# Altium schematic symbol library QB50_base_board.SCHLIB: 26 symbols
Pins are listed as number, name and electrical type; pins without a type are passive.

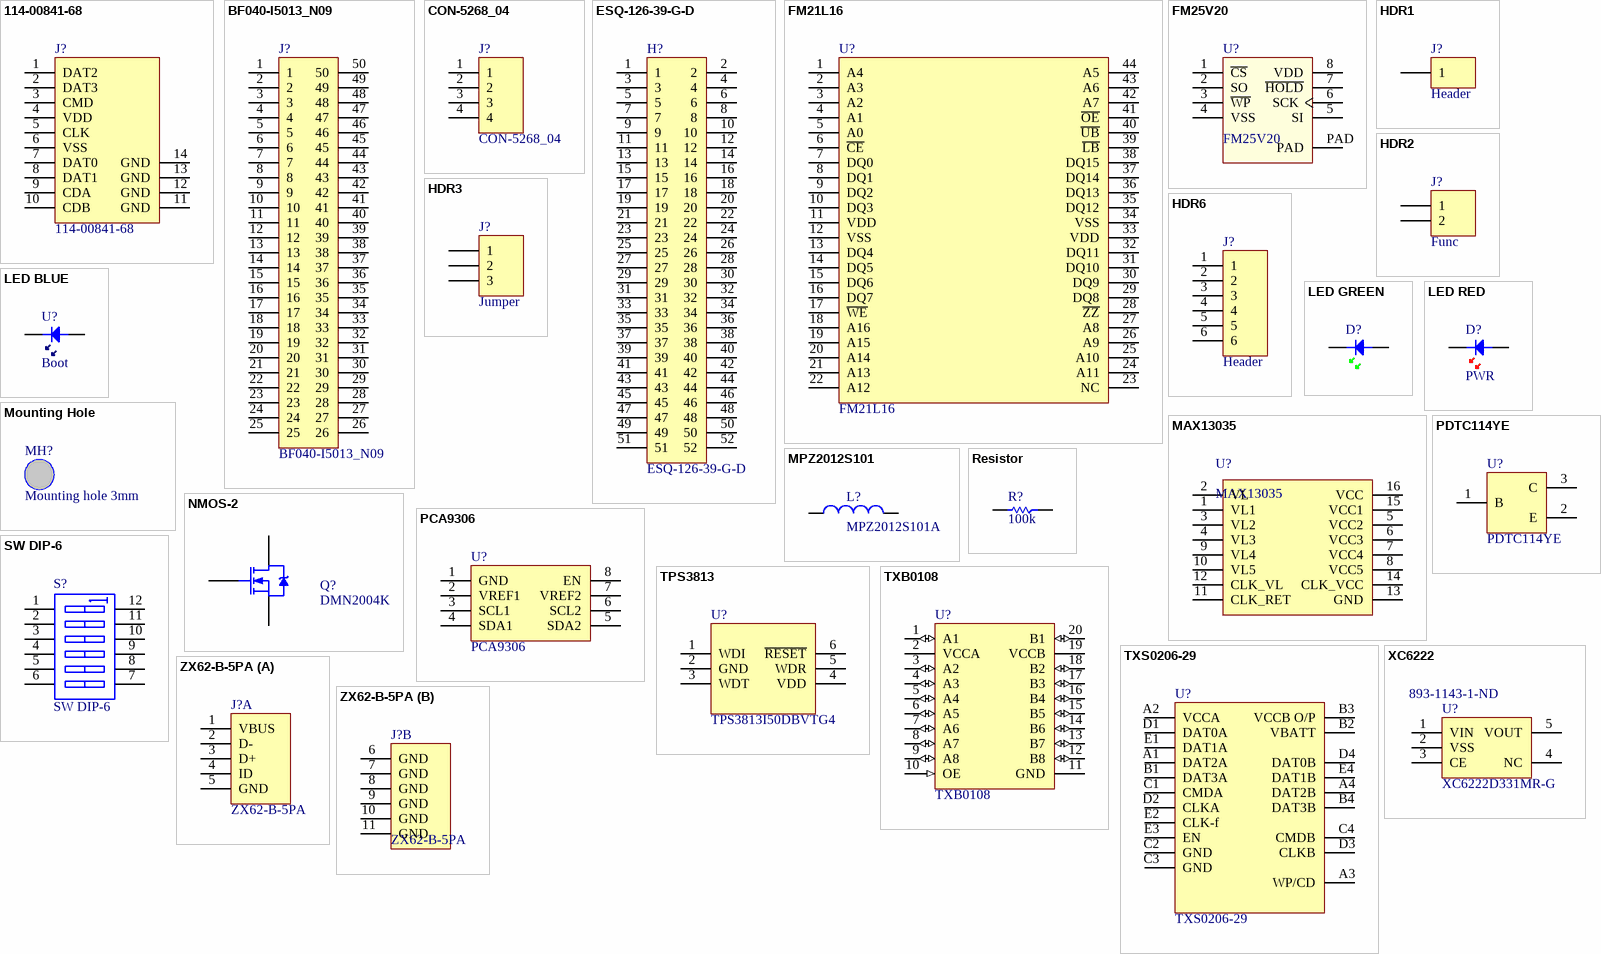
[diagram p0: symbols 114-00841-68 to ZX62-B-5PA]

## 114-00841-68
designator J?
Micro SD Connector
footprint 114-00841-68 (Amphenol MicroSD Card Connector)
pins: 1 DAT2, 2 DAT3, 3 CMD, 4 VDD, 5 CLK, 6 VSS, 7 DAT0, 8 DAT1, 9 CDA, 10 CDB, 11 GND, 12 GND, 13 GND, 14 GND

## BF040-I5013_N09
designator J?
Board to board connector
footprint BF040-I5013_N09 (Single B2B Connector for Hard Kernel CPU Module)
pins: 1, 2, 3, 4, 5, 6, 7, 8, 9, 10, 11, 12, 13, 14, 15, 16, 17, 18, 19, 20, 21, 22, 23, 24, 25, 26, 27, 28, 29, 30, 31, 32, 33, 34, 35, 36, 37, 38, 39, 40, 41, 42, 43, 44, 45, 46, 47, 48, 49, 50

## CON-5268_04
designator J?
UART connector
footprint CON-5268_04 (UART Connector)
pins: 1, 2, 3, 4

## ESQ-126-39-G-D
designator H?
CubeSat Kit header
footprint ESQ-126-39-G-D (Cubesat header)
pins: 1, 2, 3, 4, 5, 6, 7, 8, 9, 10, 11, 12, 13, 14, 15, 16, 17, 18, 19, 20, 21, 22, 23, 24, 25, 26, 27, 28, 29, 30, 31, 32, 33, 34, 35, 36, 37, 38, 39, 40, 41, 42, 43, 44, 45, 46, 47, 48, 49, 50, 51, 52

## FM21L16
designator U?
2 Mbit Parallel FRAM memory
footprint TSOPII-44 (Parallel FRAM)
pins: 1 A4, 2 A3, 3 A2, 4 A1, 5 A0, 6 ~{CE}, 7 DQ0, 8 DQ1, 9 DQ2, 10 DQ3, 11 VDD, 12 VSS, 13 DQ4, 14 DQ5, 15 DQ6, 16 DQ7, 17 ~{WE}, 18 A16, 19 A15, 20 A14, 21 A13, 22 A12, 23 NC, 24 A11, 25 A10, 26 A9, 27 A8, 28 ~{ZZ}, 29 DQ8, 30 DQ9, 31 DQ10, 32 DQ11, 33 VDD, 34 VSS, 35 DQ12, 36 DQ13, 37 DQ14, 38 DQ15, 39 ~{LB}, 40 ~{UB}, 41 ~{OE}, 42 A7, 43 A6, 44 A5

## FM25V20
designator U?
FRAM 2MB Memory
footprint TDFN8 (8 pin TDFN)
pins: 1 ~{CS}, 2 SO, 3 ~{WP}, 4 VSS, 5 SI, 6 SCK, 7 ~{HOLD}, 8 VDD, PAD

## HDR1
designator J?, comment Header
1 pin header
footprint 1 Pin Header (1-pin header plug)
pins: 1

## HDR2
designator J?, comment Func
2 Pin Header
footprint 2 Pin Header (2-pin header plug)
pins: 1, 2

## HDR3
designator J?, comment Jumper
3 Pin Header
footprint 3 Pin Header (3-pin header plug)
pins: 1, 2, 3

## HDR6
designator J?, comment Header
6-pin header
footprint 6 Pin Header (6-pin header plug)
pins: 1, 2, 3, 4, 5, 6

## LED BLUE
designator U?, comment Boot
Light Emitting Diode; Supplier 1: Digi-Key; Supplier Part Number 1: 160-1646-1-ND
footprint 603D_BLU (blue led)
pins: A, K

## LED GREEN
designator D?
Light Emitting Diode; Manufacturer: Generic Components; Class I: Discrete; Class II: Diode - Switching; Published: 8-Jun-2000; Revision: July-2002: Re-released for DXP Platform.; Publisher: Altium Limited; Supplier 1: Digi-Key; Supplier Part Number 1: 160-1435-1-ND
footprint 603D_GRN (Green LED)
pins: A, K

## LED RED
designator D?, comment PWR
Light Emitting Diode; Manufacturer: Generic Components; Class I: Discrete; Class II: Diode - Switching; Published: 8-Jun-2000; Revision: July-2002: Re-released for DXP Platform.; Publisher: Altium Limited; Supplier 1: Digi-Key; Supplier Part Number 1: 160-1436-1-ND
footprint 603D_RED (red led)
pins: A, K

## MAX13035
designator U?
SD/MMC high - speed voltage level translator
footprint TQFN16 (SD/MMC high - speed voltage level translator)
pins: 1 VL1, 2 VL, 3 VL2, 4 VL3, 5 VCC2, 6 VCC3, 7 VCC4, 8 VCC5, 9 VL4, 10 VL5, 11 CLK_RET, 12 CLK_VL, 13 GND, 14 CLK_VCC, 15 VCC1, 16 VCC

## Mounting Hole
designator MH?, comment Mounting hole 3mm
footprint MOUNTINGHOLE (Mouting hole 3.2mm)

## MPZ2012S101
designator L?, comment MPZ2012S101A
Supplier 1: Digi-Key; Supplier Part Number 1: 445-1567-1-ND
footprint MPZ2012S101A (Ferrite bead inductor)
pins: 1, 2

## NMOS-2
designator Q?, comment DMN2004K
N-Channel Power MOSFET
footprint SOT26A-6N (SOT23, 6-Leads, Body 2.9x1.7mm, Pitch 0.95mm, Lead Span 2.8mm, IPC Medium Density)
pins: D, G, S

## PCA9306
designator U?
Dual bidirectional I2C bus voltage-level translator; Supplier 1: Digi-Key; Supplier Part Number 1: 296-18509-1-ND
footprint DCT8 (TSOP, 8-Leads, Body 2.95x2.80mm, Pitch 0.65mm, IPC Low Density)
pins: 1 GND, 2 VREF1, 3 SCL1, 4 SDA1, 5 SDA2, 6 SCL2, 7 VREF2, 8 EN

## PDTC114YE
designator U?
NPN resistor-equipped transistors
footprint SOT416
pins: 1 B, 2 E, 3 C

## Resistor
designator R?, comment 100k
Resistor; Value: 100k
footprint 0603 (0603 Footprint)
pins: 1, 2

## SW DIP-6
designator S?
DIP Switch, 6 Position, SPST
footprint DIP 6 Way Switch (6 Way Dual In Line Switch)
pins: 1 A1, 2 A2, 3 A3, 4 A4, 5 A5, 6 A6, 7 B6, 8 B5, 9 B4, 10 B3, 11 B2, 12 B1

## TPS3813
designator U?, comment TPS3813I50DBVTG4
Window-Watchdog
footprint TPS3813I50 (Watchdog, SOT23)
pins: 1 WDI, 2 GND, 3 WDT, 4 VDD, 5 WDR, 6 ~{RESET}

## TXB0108
designator U?
8-bit bidirectional voltage level translator; ComponentLink1URL: http://www.ti.com/lit/ds/symlink/txb0108.pdf; ComponentLink1Description: Datasheet
pins: 1 A1 (io), 2 VCCA, 3 A2 (io), 4 A3 (io), 5 A4 (io), 6 A5 (io), 7 A6 (io), 8 A7 (io), 9 A8 (io), 10 OE (in), 11 GND, 12 B8 (io), 13 B7 (io), 14 B6 (io), 15 B5 (io), 16 B4 (io), 17 B3 (io), 18 B2 (io), 19 VCCB, 20 B1 (io)

## TXS0206-29
designator U?
SD, MMC voltage translator
footprint TXS0206-29 (MMC, SD voltage level translator, BGA)
pins: A1 DAT2A, A2 VCCA, A3 WP/CD, A4 DAT2B, B1 DAT3A, B2 VBATT, B3 VCCB O/P, B4 DAT3B, C1 CMDA, C2 GND, C3 GND, C4 CMDB, D1 DAT0A, D2 CLKA, D3 CLKB, D4 DAT0B, E1 DAT1A, E2 CLK-f, E3 EN, E4 DAT1B

## XC6222
designator U?, comment XC6222D331MR-G  Supplier Part Number 1: 893-1143-1-ND
3.3V voltage regulator; Supplier 1: Digi-Key
footprint SOT23-5BL (SOT23, 5-Leads, Body 2.9x1.6mm, Pitch 0.95mm, Lead Span 2.8mm, IPC High Density)
pins: 1 VIN, 2 VSS, 3 CE, 4 NC, 5 VOUT

## ZX62-B-5PA
designator J?
Micro-USB connector
footprint ZX62-B-5PA (Micro- USB connector)
part A pins: 1 VBUS, 2 D-, 3 D+, 4 ID, 5 GND
part B pins: 6 GND, 7 GND, 8 GND, 9 GND, 10 GND, 11 GND